# Altium footprint library RESC4431X047.PcbLib: 3 footprints
Each footprint in its own frame and in the unit in brackets; x right, y up, seen from the top. Pads: shape width x height; smd on the part's side, far side on the other; paste and mask are expansions set on the pad; w line width, h text height; cw(c..) or ccw(c..) is an arc to the next point about the centre after c.
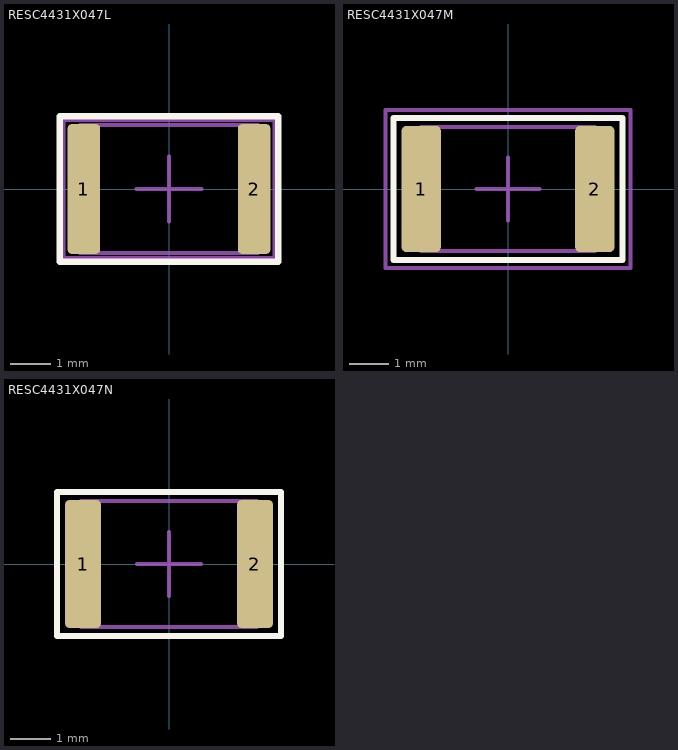
[diagram p0: the footprints below, top view; thin cyan lines are the x and y axes]

## RESC4431X047L [mm] "Resistors, Chip"
height 0.67
pads (2):
  rrect25% 0.8x3.2 smd: 1(-2.1,0) 2(2.1,0)
Top Overlay:
  lines w0.16: -2.7,-1.8 2.7,-1.8 2.7,1.8 -2.7,1.8 -2.7,-1.8
Top Component Center:
  lines w0.1: -0.8,0 0.8,0 ; 0,-0.8 0,0.8
Top Courtyard:
  lines w0.1: -2.6,-1.7 2.6,-1.7 2.6,1.7 -2.6,1.7 -2.6,-1.7
Top Assembly:
  lines w0.1: -2.2,-1.575 2.2,-1.575 2.2,1.575 -2.2,1.575 -2.2,-1.575
  text ".Designator" at 0,0 h1
3D body "RESC4431X047L.STEP": height 0.47, standoff 0, extent -2.2,-1.575 2.2,1.575

## RESC4431X047M [mm] "Resistors, Chip"
height 0.67
pads (2):
  rrect25% 1x3.2 smd: 1(-2.2,0) 2(2.2,0)
Top Overlay:
  lines w0.16: -2.9,-1.8 2.9,-1.8 2.9,1.8 -2.9,1.8 -2.9,-1.8
Top Component Center:
  lines w0.1: -0.8,0 0.8,0 ; 0,-0.8 0,0.8
Top Courtyard:
  lines w0.1: -3.1,-2 3.1,-2 3.1,2 -3.1,2 -3.1,-2
Top Assembly:
  lines w0.1: -2.2,-1.575 2.2,-1.575 2.2,1.575 -2.2,1.575 -2.2,-1.575
  text ".Designator" at 0,0 h1
3D body "RESC4431X047M.STEP": height 0.47, standoff 0, extent -2.2,-1.575 2.2,1.575

## RESC4431X047N [mm] "Resistors, Chip"
height 0.67
pads (2):
  rrect25% 0.9x3.2 smd: 1(-2.15,0) 2(2.15,0)
Top Overlay:
  lines w0.16: -2.8,-1.8 2.8,-1.8 2.8,1.8 -2.8,1.8 -2.8,-1.8
Top Component Center:
  lines w0.1: -0.8,0 0.8,0 ; 0,-0.8 0,0.8
Top Courtyard:
  lines w0.1: -2.8,-1.8 2.8,-1.8 2.8,1.8 -2.8,1.8 -2.8,-1.8
Top Assembly:
  lines w0.1: -2.2,-1.575 2.2,-1.575 2.2,1.575 -2.2,1.575 -2.2,-1.575
  text ".Designator" at 0,0 h1
3D body "RESC4431X047N.STEP": height 0.47, standoff 0, extent -2.2,-1.575 2.2,1.575